# EAGLE library part LTC7001 (library Custom_new)
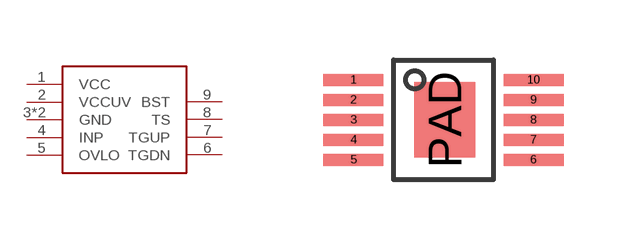
[diagram p10: symbol with the pads of PSOP-10-EP; footprint PSOP-10-EP]

Designator prefix -

## LTC7001  [PSOP-10-EP]
1  VCC
2  VCCUV
3  GND
4  INP
5  OVLO
6  TGDN
7  TGUP
8  TS
9  BST
PAD  GND

## Footprint PSOP-10-EP (pad centres in mm)
smd 1.5 x 0.3: 1 -2.286,1; 2 -2.286,0.5; 3 -2.286,0; 4 -2.286,-0.5; 5 -2.286,-1; 6 2.214,-1; 7 2.214,-0.5; 8 2.214,0; 9 2.214,0.5; 10 2.214,1
smd 1.524 x 1.88: PAD 0,0